# Altium footprint library Connector_JST.PcbLib: 558 footprints (part 11 of 35)
Each footprint in its own frame and in the unit in brackets; x right, y up, seen from the top. Pads: shape width x height; smd on the part's side, far side on the other; paste and mask are expansions set on the pad; w line width, h text height; cw(c..) or ccw(c..) is an arc to the next point about the centre after c.
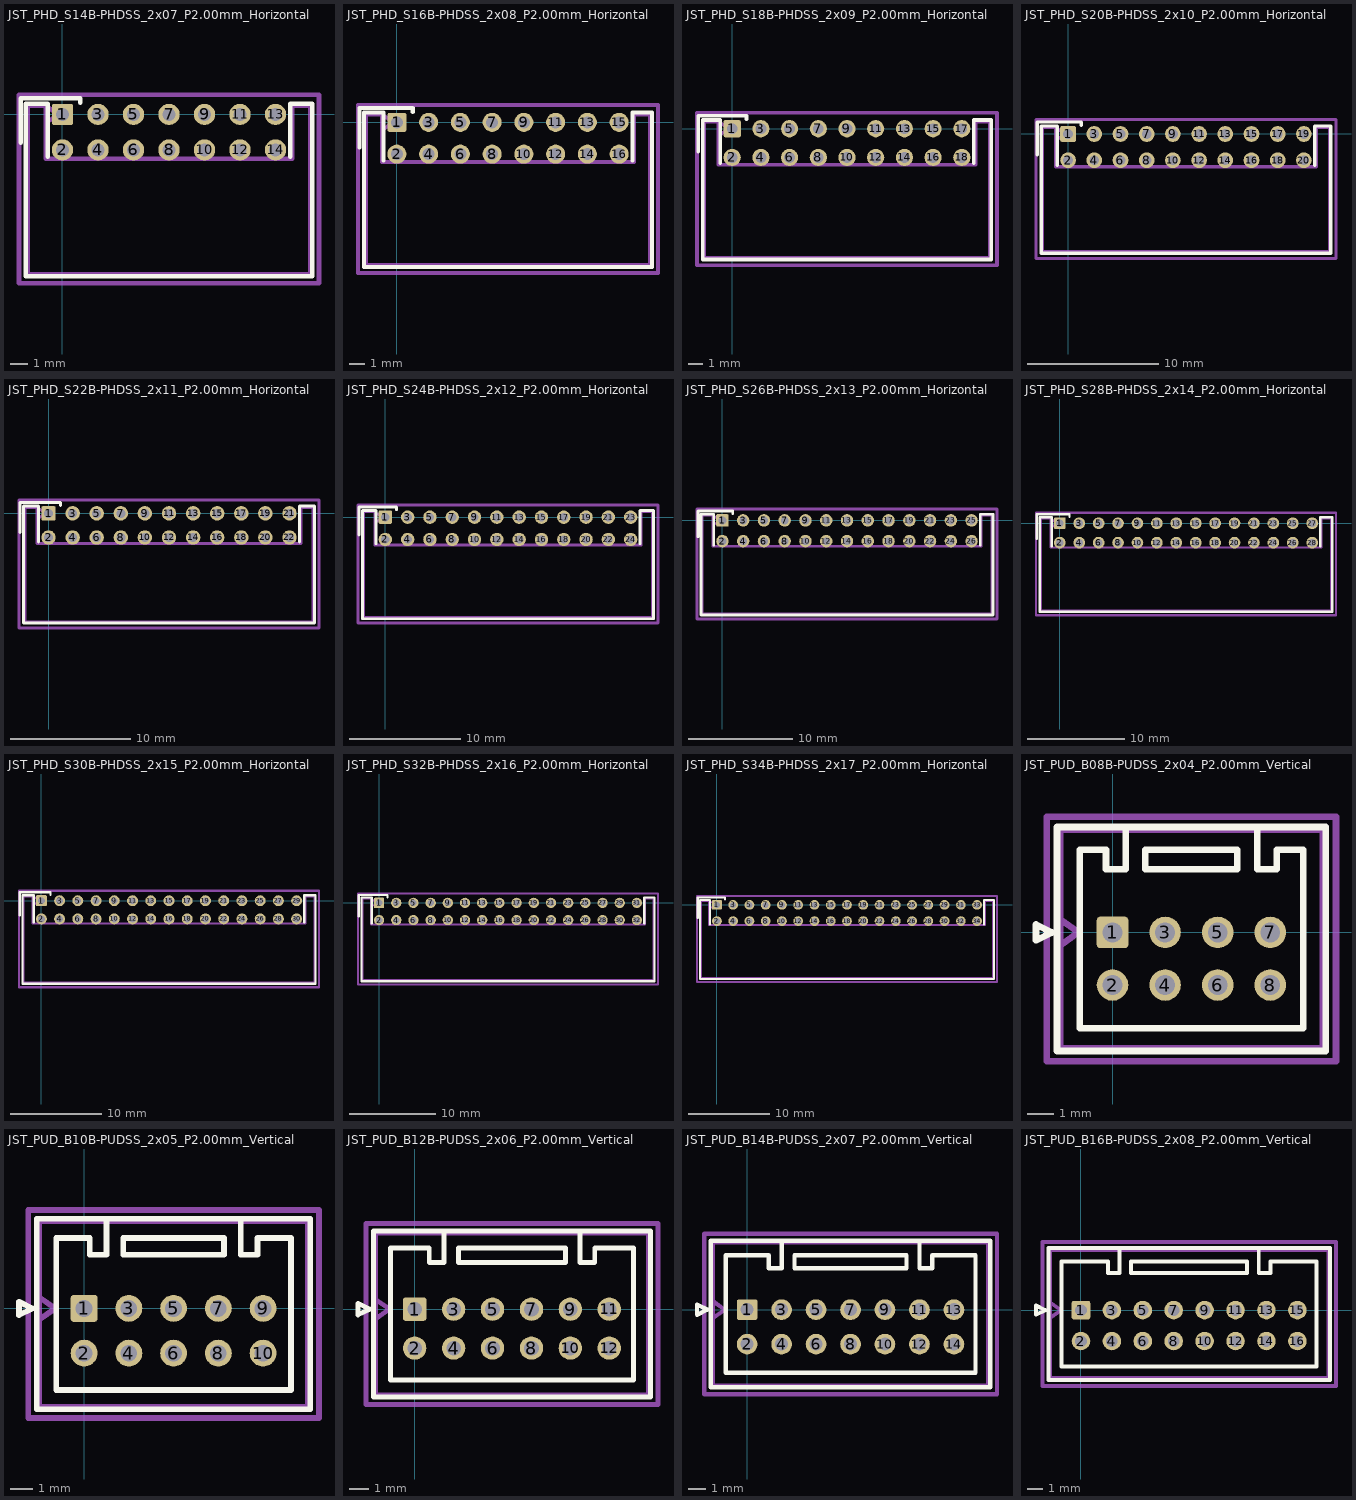
[diagram p10: the footprints below, top view; thin cyan lines are the x and y axes]

## JST_PHD_S14B-PHDSS_2x07_P2.00mm_Horizontal [mm] "JST_PHD_S14B-PHDSS_2x07_P2.00mm_Horizontal"
pads (14):
  rrect21% 1.2x1.2 hole 0.75: 1(0,0)
  round 1.2 hole 0.75: 2(0,-2) 3(2,0) 4(2,-2) 5(4,0) 6(4,-2) 7(6,0) 8(6,-2) 9(8,0) 10(8,-2) 11(10,0) 12(10,-2) 13(12,0) 14(12,-2)
F.SilkS:
  lines w0.254: -2.36,-1.59 -2.36,0.91 1,0.91 1,0.66 ; -0.84,-2.39 -0.84,0.61 -2.06,0.61 -2.06,-9.11 6,-9.11 14.06,-9.11 14.06,0.61 12.84,0.61 12.84,-2.39
Top Component Center:
  lines w0.127: -0.127,0 0.127,0 ; 0,-0.127 0,0.127
Top Assembly:
  lines w0.254: -0.95,-0.5 -0.243,0 -0.95,0.5 ; -0.95,0.5 -0.95,-2.5 12.95,-2.5 12.95,0.5 13.95,0.5 13.95,-9 -1.95,-9 -1.95,0.5 -0.95,0.5
Top Courtyard:
  lines w0.254: -2.45,-9.5 14.45,-9.5 14.45,1.1 -2.45,1.1 -2.45,-9.5
Top Designator:
  text ".Designator" at 2.57,-4.544 h1.52

## JST_PHD_S16B-PHDSS_2x08_P2.00mm_Horizontal [mm] "JST_PHD_S16B-PHDSS_2x08_P2.00mm_Horizontal"
pads (16):
  rrect21% 1.2x1.2 hole 0.75: 1(0,0)
  round 1.2 hole 0.75: 2(0,-2) 3(2,0) 4(2,-2) 5(4,0) 6(4,-2) 7(6,0) 8(6,-2) 9(8,0) 10(8,-2) 11(10,0) 12(10,-2) 13(12,0) 14(12,-2) 15(14,0) 16(14,-2)
F.SilkS:
  lines w0.254: -2.36,-1.59 -2.36,0.91 1,0.91 1,0.66 ; -0.84,-2.39 -0.84,0.61 -2.06,0.61 -2.06,-9.11 7,-9.11 16.06,-9.11 16.06,0.61 14.84,0.61 14.84,-2.39
Top Component Center:
  lines w0.127: -0.127,0 0.127,0 ; 0,-0.127 0,0.127
Top Assembly:
  lines w0.254: -0.95,-0.5 -0.243,0 -0.95,0.5 ; -0.95,0.5 -0.95,-2.5 14.95,-2.5 14.95,0.5 15.95,0.5 15.95,-9 -1.95,-9 -1.95,0.5 -0.95,0.5
Top Courtyard:
  lines w0.254: -2.45,-9.5 16.45,-9.5 16.45,1.1 -2.45,1.1 -2.45,-9.5
Top Designator:
  text ".Designator" at 3.682,-5.678 h1.52

## JST_PHD_S18B-PHDSS_2x09_P2.00mm_Horizontal [mm] "JST_PHD_S18B-PHDSS_2x09_P2.00mm_Horizontal"
pads (18):
  rrect21% 1.2x1.2 hole 0.75: 1(0,0)
  round 1.2 hole 0.75: 2(0,-2) 3(2,0) 4(2,-2) 5(4,0) 6(4,-2) 7(6,0) 8(6,-2) 9(8,0) 10(8,-2) 11(10,0) 12(10,-2) 13(12,0) 14(12,-2) 15(14,0) 16(14,-2) 17(16,0) 18(16,-2)
F.SilkS:
  lines w0.254: -2.36,-1.59 -2.36,0.91 1,0.91 1,0.66 ; -0.84,-2.39 -0.84,0.61 -2.06,0.61 -2.06,-9.11 8,-9.11 18.06,-9.11 18.06,0.61 16.84,0.61 16.84,-2.39
Top Component Center:
  lines w0.127: -0.127,0 0.127,0 ; 0,-0.127 0,0.127
Top Assembly:
  lines w0.254: -0.95,-0.5 -0.243,0 -0.95,0.5 ; -0.95,0.5 -1.95,0.5 -1.95,-9 17.95,-9 17.95,0.5 16.95,0.5 16.95,-2.5 -0.95,-2.5 -0.95,0.5
Top Courtyard:
  lines w0.254: -2.45,-9.5 -2.45,1.1 18.45,1.1 18.45,-9.5 -2.45,-9.5
Top Designator:
  text ".Designator" at 4.57,-4.544 h1.52

## JST_PHD_S20B-PHDSS_2x10_P2.00mm_Horizontal [mm] "JST_PHD_S20B-PHDSS_2x10_P2.00mm_Horizontal"
pads (20):
  rrect21% 1.2x1.2 hole 0.75: 1(0,0)
  round 1.2 hole 0.75: 2(0,-2) 3(2,0) 4(2,-2) 5(4,0) 6(4,-2) 7(6,0) 8(6,-2) 9(8,0) 10(8,-2) 11(10,0) 12(10,-2) 13(12,0) 14(12,-2) 15(14,0) 16(14,-2) 17(16,0) 18(16,-2) 19(18,0) 20(18,-2)
F.SilkS:
  lines w0.254: -2.36,-1.59 -2.36,0.91 1,0.91 1,0.66 ; -0.84,-2.39 -0.84,0.61 -2.06,0.61 -2.06,-9.11 9,-9.11 20.06,-9.11 20.06,0.61 18.84,0.61 18.84,-2.39
Top Component Center:
  lines w0.127: -0.127,0 0.127,0 ; 0,-0.127 0,0.127
Top Assembly:
  lines w0.254: -0.95,-0.5 -0.243,0 -0.95,0.5 ; -0.95,0.5 -1.95,0.5 -1.95,-9 19.95,-9 19.95,0.5 18.95,0.5 18.95,-2.5 -0.95,-2.5 -0.95,0.5
Top Courtyard:
  lines w0.254: -2.45,-9.5 -2.45,1.1 20.45,1.1 20.45,-9.5 -2.45,-9.5
Top Designator:
  text ".Designator" at 5.714,-5.678 h1.52

## JST_PHD_S22B-PHDSS_2x11_P2.00mm_Horizontal [mm] "JST_PHD_S22B-PHDSS_2x11_P2.00mm_Horizontal"
pads (22):
  rrect21% 1.2x1.2 hole 0.75: 1(0,0)
  round 1.2 hole 0.75: 2(0,-2) 3(2,0) 4(2,-2) 5(4,0) 6(4,-2) 7(6,0) 8(6,-2) 9(8,0) 10(8,-2) 11(10,0) 12(10,-2) 13(12,0) 14(12,-2) 15(14,0) 16(14,-2) 17(16,0) 18(16,-2) 19(18,0) 20(18,-2) 21(20,0) 22(20,-2)
F.SilkS:
  lines w0.254: -2.36,-1.59 -2.36,0.91 1,0.91 1,0.66 ; -0.84,-2.39 -0.84,0.61 -2.06,0.61 -2.06,-9.11 10,-9.11 22.06,-9.11 22.06,0.61 20.84,0.61 20.84,-2.39
Top Component Center:
  lines w0.127: -0.127,0 0.127,0 ; 0,-0.127 0,0.127
Top Assembly:
  lines w0.254: -0.95,-0.5 -0.243,0 -0.95,0.5 ; -0.95,0.5 -1.95,0.5 -1.95,-9 21.95,-9 21.95,0.5 20.95,0.5 20.95,-2.5 -0.95,-2.5 -0.95,0.5
Top Courtyard:
  lines w0.254: -2.45,-9.5 -2.45,1.1 22.45,1.1 22.45,-9.5 -2.45,-9.5
Top Designator:
  text ".Designator" at 6.603,-5.551 h1.52

## JST_PHD_S24B-PHDSS_2x12_P2.00mm_Horizontal [mm] "JST_PHD_S24B-PHDSS_2x12_P2.00mm_Horizontal"
pads (24):
  rrect21% 1.2x1.2 hole 0.75: 1(0,0)
  round 1.2 hole 0.75: 2(0,-2) 3(2,0) 4(2,-2) 5(4,0) 6(4,-2) 7(6,0) 8(6,-2) 9(8,0) 10(8,-2) 11(10,0) 12(10,-2) 13(12,0) 14(12,-2) 15(14,0) 16(14,-2) 17(16,0) 18(16,-2) 19(18,0) 20(18,-2) 21(20,0) 22(20,-2) 23(22,0) 24(22,-2)
F.SilkS:
  lines w0.254: -2.36,-1.59 -2.36,0.91 1,0.91 1,0.66 ; -0.84,-2.39 -0.84,0.61 -2.06,0.61 -2.06,-9.11 11,-9.11 24.06,-9.11 24.06,0.61 22.84,0.61 22.84,-2.39
Top Component Center:
  lines w0.127: -0.127,0 0.127,0 ; 0,-0.127 0,0.127
Top Assembly:
  lines w0.254: -0.95,-0.5 -0.243,0 -0.95,0.5 ; -0.95,0.5 -0.95,-2.5 22.95,-2.5 22.95,0.5 23.95,0.5 23.95,-9 -1.95,-9 -1.95,0.5 -0.95,0.5
Top Courtyard:
  lines w0.254: -2.45,-9.5 24.45,-9.5 24.45,1.1 -2.45,1.1 -2.45,-9.5
Top Designator:
  text ".Designator" at 7.746,-5.17 h1.52

## JST_PHD_S26B-PHDSS_2x13_P2.00mm_Horizontal [mm] "JST_PHD_S26B-PHDSS_2x13_P2.00mm_Horizontal"
pads (26):
  rrect21% 1.2x1.2 hole 0.75: 1(0,0)
  round 1.2 hole 0.75: 2(0,-2) 3(2,0) 4(2,-2) 5(4,0) 6(4,-2) 7(6,0) 8(6,-2) 9(8,0) 10(8,-2) 11(10,0) 12(10,-2) 13(12,0) 14(12,-2) 15(14,0) 16(14,-2) 17(16,0) 18(16,-2) 19(18,0) 20(18,-2) 21(20,0) 22(20,-2) 23(22,0) 24(22,-2) 25(24,0) 26(24,-2)
F.SilkS:
  lines w0.254: -2.36,-1.59 -2.36,0.91 1,0.91 1,0.66 ; -0.84,-2.39 -0.84,0.61 -2.06,0.61 -2.06,-9.11 12,-9.11 26.06,-9.11 26.06,0.61 24.84,0.61 24.84,-2.39
Top Component Center:
  lines w0.127: -0.127,0 0.127,0 ; 0,-0.127 0,0.127
Top Assembly:
  lines w0.254: -0.95,-0.5 -0.243,0 -0.95,0.5 ; -0.95,0.5 -1.95,0.5 -1.95,-9 25.95,-9 25.95,0.5 24.95,0.5 24.95,-2.5 -0.95,-2.5 -0.95,0.5
Top Courtyard:
  lines w0.254: -2.45,-9.5 -2.45,1.1 26.45,1.1 26.45,-9.5 -2.45,-9.5
Top Designator:
  text ".Designator" at 9.143,-5.678 h1.52

## JST_PHD_S28B-PHDSS_2x14_P2.00mm_Horizontal [mm] "JST_PHD_S28B-PHDSS_2x14_P2.00mm_Horizontal"
pads (28):
  rrect21% 1.2x1.2 hole 0.75: 1(0,0)
  round 1.2 hole 0.75: 2(0,-2) 3(2,0) 4(2,-2) 5(4,0) 6(4,-2) 7(6,0) 8(6,-2) 9(8,0) 10(8,-2) 11(10,0) 12(10,-2) 13(12,0) 14(12,-2) 15(14,0) 16(14,-2) 17(16,0) 18(16,-2) 19(18,0) 20(18,-2) 21(20,0) 22(20,-2) 23(22,0) 24(22,-2) 25(24,0) 26(24,-2) 27(26,0) 28(26,-2)
F.SilkS:
  lines w0.254: -2.36,-1.59 -2.36,0.91 1,0.91 1,0.66 ; -0.84,-2.39 -0.84,0.61 -2.06,0.61 -2.06,-9.11 13,-9.11 28.06,-9.11 28.06,0.61 26.84,0.61 26.84,-2.39
Top Component Center:
  lines w0.127: -0.127,0 0.127,0 ; 0,-0.127 0,0.127
Top Assembly:
  lines w0.254: -0.95,-0.5 -0.243,0 -0.95,0.5 ; -0.95,0.5 -0.95,-2.5 26.95,-2.5 26.95,0.5 27.95,0.5 27.95,-9 -1.95,-9 -1.95,0.5 -0.95,0.5
Top Courtyard:
  lines w0.254: -2.45,-9.5 28.45,-9.5 28.45,1.1 -2.45,1.1 -2.45,-9.5
Top Designator:
  text ".Designator" at 9.524,-5.805 h1.52

## JST_PHD_S30B-PHDSS_2x15_P2.00mm_Horizontal [mm] "JST_PHD_S30B-PHDSS_2x15_P2.00mm_Horizontal"
pads (30):
  rrect21% 1.2x1.2 hole 0.75: 1(0,0)
  round 1.2 hole 0.75: 2(0,-2) 3(2,0) 4(2,-2) 5(4,0) 6(4,-2) 7(6,0) 8(6,-2) 9(8,0) 10(8,-2) 11(10,0) 12(10,-2) 13(12,0) 14(12,-2) 15(14,0) 16(14,-2) 17(16,0) 18(16,-2) 19(18,0) 20(18,-2) 21(20,0) 22(20,-2) 23(22,0) 24(22,-2) 25(24,0) 26(24,-2) 27(26,0) 28(26,-2) 29(28,0) 30(28,-2)
F.SilkS:
  lines w0.254: -2.36,-1.59 -2.36,0.91 1,0.91 1,0.66 ; -0.84,-2.39 -0.84,0.61 -2.06,0.61 -2.06,-9.11 14,-9.11 30.06,-9.11 30.06,0.61 28.84,0.61 28.84,-2.39
Top Component Center:
  lines w0.127: -0.127,0 0.127,0 ; 0,-0.127 0,0.127
Top Assembly:
  lines w0.254: -0.95,-0.5 -0.243,0 -0.95,0.5 ; -0.95,0.5 -1.95,0.5 -1.95,-9 29.95,-9 29.95,0.5 28.95,0.5 28.95,-2.5 -0.95,-2.5 -0.95,0.5
Top Courtyard:
  lines w0.254: -2.45,-9.5 -2.45,1.1 30.45,1.1 30.45,-9.5 -2.45,-9.5
Top Designator:
  text ".Designator" at 10.413,-6.059 h1.52

## JST_PHD_S32B-PHDSS_2x16_P2.00mm_Horizontal [mm] "JST_PHD_S32B-PHDSS_2x16_P2.00mm_Horizontal"
pads (32):
  rrect21% 1.2x1.2 hole 0.75: 1(0,0)
  round 1.2 hole 0.75: 2(0,-2) 3(2,0) 4(2,-2) 5(4,0) 6(4,-2) 7(6,0) 8(6,-2) 9(8,0) 10(8,-2) 11(10,0) 12(10,-2) 13(12,0) 14(12,-2) 15(14,0) 16(14,-2) 17(16,0) 18(16,-2) 19(18,0) 20(18,-2) 21(20,0) 22(20,-2) 23(22,0) 24(22,-2) 25(24,0) 26(24,-2) 27(26,0) 28(26,-2) 29(28,0) 30(28,-2) 31(30,0) 32(30,-2)
F.SilkS:
  lines w0.254: -2.36,-1.59 -2.36,0.91 1,0.91 1,0.66 ; -0.84,-2.39 -0.84,0.61 -2.06,0.61 -2.06,-9.11 15,-9.11 32.06,-9.11 32.06,0.61 30.84,0.61 30.84,-2.39
Top Component Center:
  lines w0.127: -0.127,0 0.127,0 ; 0,-0.127 0,0.127
Top Assembly:
  lines w0.254: -0.95,-0.5 -0.243,0 -0.95,0.5 ; -0.95,0.5 -0.95,-2.5 30.95,-2.5 30.95,0.5 31.95,0.5 31.95,-9 -1.95,-9 -1.95,0.5 -0.95,0.5
Top Courtyard:
  lines w0.254: -2.45,-9.5 32.45,-9.5 32.45,1.1 -2.45,1.1 -2.45,-9.5
Top Designator:
  text ".Designator" at 11.556,-5.297 h1.52

## JST_PHD_S34B-PHDSS_2x17_P2.00mm_Horizontal [mm] "JST_PHD_S34B-PHDSS_2x17_P2.00mm_Horizontal"
pads (34):
  rrect21% 1.2x1.2 hole 0.75: 1(0,0)
  round 1.2 hole 0.75: 2(0,-2) 3(2,0) 4(2,-2) 5(4,0) 6(4,-2) 7(6,0) 8(6,-2) 9(8,0) 10(8,-2) 11(10,0) 12(10,-2) 13(12,0) 14(12,-2) 15(14,0) 16(14,-2) 17(16,0) 18(16,-2) 19(18,0) 20(18,-2) 21(20,0) 22(20,-2) 23(22,0) 24(22,-2) 25(24,0) 26(24,-2) 27(26,0) 28(26,-2) 29(28,0) 30(28,-2) 31(30,0) 32(30,-2) 33(32,0) 34(32,-2)
F.SilkS:
  lines w0.254: -2.36,-1.59 -2.36,0.91 1,0.91 1,0.66 ; -0.84,-2.39 -0.84,0.61 -2.06,0.61 -2.06,-9.11 16,-9.11 34.06,-9.11 34.06,0.61 32.84,0.61 32.84,-2.39
Top Component Center:
  lines w0.127: -0.127,0 0.127,0 ; 0,-0.127 0,0.127
Top Assembly:
  lines w0.254: -0.95,-0.5 -0.243,0 -0.95,0.5 ; -0.95,0.5 -1.95,0.5 -1.95,-9 33.95,-9 33.95,0.5 32.95,0.5 32.95,-2.5 -0.95,-2.5 -0.95,0.5
Top Courtyard:
  lines w0.254: -2.45,-9.5 -2.45,1.1 34.45,1.1 34.45,-9.5 -2.45,-9.5
Top Designator:
  text ".Designator" at 12.57,-4.544 h1.52

## JST_PUD_B08B-PUDSS_2x04_P2.00mm_Vertical [mm] "JST_PUD_B08B-PUDSS_2x04_P2.00mm_Vertical"
pads (8):
  rrect21% 1.2x1.2 hole 0.75: 1(0,0)
  round 1.2 hole 0.75: 2(0,-2) 3(2,0) 4(2,-2) 5(4,0) 6(4,-2) 7(6,0) 8(6,-2)
F.SilkS:
  lines w0.254: 0.5,4.01 0.5,2.4 -0.25,2.4 -0.25,3.15 -1.25,3.15 -1.25,-3.65 3,-3.65 7.25,-3.65 7.25,3.15 6.25,3.15 6.25,2.4 5.5,2.4 5.5,4.01 ; -2.91,-0.3 -2.31,0 -2.91,0.3 -2.91,-0.3 ; -2.11,-4.51 8.11,-4.51 8.11,4.01 -2.11,4.01 -2.11,-4.51 ; 1.25,2.4 4.75,2.4 4.75,3.15 1.25,3.15 1.25,2.4
Top Component Center:
  lines w0.127: -0.127,0 0.127,0 ; 0,-0.127 0,0.127
Top Assembly:
  lines w0.254: -2,-0.5 -1.293,0 -2,0.5 ; -2,-4.4 8,-4.4 8,3.9 -2,3.9 -2,-4.4
Top Courtyard:
  lines w0.254: -2.5,-4.9 8.5,-4.9 8.5,4.4 -2.5,4.4 -2.5,-4.9
Top Designator:
  text ".Designator" at -0.509,1.053 h1.52

## JST_PUD_B10B-PUDSS_2x05_P2.00mm_Vertical [mm] "JST_PUD_B10B-PUDSS_2x05_P2.00mm_Vertical"
pads (10):
  rrect21% 1.2x1.2 hole 0.75: 1(0,0)
  round 1.2 hole 0.75: 2(0,-2) 3(2,0) 4(2,-2) 5(4,0) 6(4,-2) 7(6,0) 8(6,-2) 9(8,0) 10(8,-2)
F.SilkS:
  lines w0.254: 1,4.01 1,2.4 0.25,2.4 0.25,3.15 -1.25,3.15 -1.25,-3.65 4,-3.65 9.25,-3.65 9.25,3.15 7.75,3.15 7.75,2.4 7,2.4 7,4.01 ; -2.91,-0.3 -2.31,0 -2.91,0.3 -2.91,-0.3 ; -2.11,-4.51 10.11,-4.51 10.11,4.01 -2.11,4.01 -2.11,-4.51 ; 1.75,2.4 6.25,2.4 6.25,3.15 1.75,3.15 1.75,2.4
Top Component Center:
  lines w0.127: -0.127,0 0.127,0 ; 0,-0.127 0,0.127
Top Assembly:
  lines w0.254: -2,-0.5 -1.293,0 -2,0.5 ; -2,-4.4 10,-4.4 10,3.9 -2,3.9 -2,-4.4
Top Courtyard:
  lines w0.254: -2.5,-4.9 10.5,-4.9 10.5,4.4 -2.5,4.4 -2.5,-4.9
Top Designator:
  text ".Designator" at 0.507,1.18 h1.52

## JST_PUD_B12B-PUDSS_2x06_P2.00mm_Vertical [mm] "JST_PUD_B12B-PUDSS_2x06_P2.00mm_Vertical"
pads (12):
  rrect21% 1.2x1.2 hole 0.75: 1(0,0)
  round 1.2 hole 0.75: 2(0,-2) 3(2,0) 4(2,-2) 5(4,0) 6(4,-2) 7(6,0) 8(6,-2) 9(8,0) 10(8,-2) 11(10,0) 12(10,-2)
F.SilkS:
  lines w0.254: 1.5,4.01 1.5,2.4 0.75,2.4 0.75,3.15 -1.25,3.15 -1.25,-3.65 5,-3.65 11.25,-3.65 11.25,3.15 9.25,3.15 9.25,2.4 8.5,2.4 8.5,4.01 ; -2.91,-0.3 -2.91,0.3 -2.31,0 -2.91,-0.3 ; -2.11,-4.51 -2.11,4.01 12.11,4.01 12.11,-4.51 -2.11,-4.51 ; 2.25,2.4 2.25,3.15 7.75,3.15 7.75,2.4 2.25,2.4
Top Component Center:
  lines w0.127: -0.127,0 0.127,0 ; 0,-0.127 0,0.127
Top Assembly:
  lines w0.254: -2,-0.5 -1.293,0 -2,0.5 ; -2,-4.4 -2,3.9 12,3.9 12,-4.4 -2,-4.4
Top Courtyard:
  lines w0.254: -2.5,-4.9 -2.5,4.4 12.5,4.4 12.5,-4.9 -2.5,-4.9
Top Designator:
  text ".Designator" at 1.523,1.18 h1.52

## JST_PUD_B14B-PUDSS_2x07_P2.00mm_Vertical [mm] "JST_PUD_B14B-PUDSS_2x07_P2.00mm_Vertical"
pads (14):
  rrect21% 1.2x1.2 hole 0.75: 1(0,0)
  round 1.2 hole 0.75: 2(0,-2) 3(2,0) 4(2,-2) 5(4,0) 6(4,-2) 7(6,0) 8(6,-2) 9(8,0) 10(8,-2) 11(10,0) 12(10,-2) 13(12,0) 14(12,-2)
F.SilkS:
  lines w0.254: 2,4.01 2,2.4 1.25,2.4 1.25,3.15 -1.25,3.15 -1.25,-3.65 6,-3.65 13.25,-3.65 13.25,3.15 10.75,3.15 10.75,2.4 10,2.4 10,4.01 ; -2.91,-0.3 -2.91,0.3 -2.31,0 -2.91,-0.3 ; -2.11,-4.51 -2.11,4.01 14.11,4.01 14.11,-4.51 -2.11,-4.51 ; 2.75,2.4 2.75,3.15 9.25,3.15 9.25,2.4 2.75,2.4
Top Component Center:
  lines w0.127: -0.127,0 0.127,0 ; 0,-0.127 0,0.127
Top Assembly:
  lines w0.254: -2,-0.5 -1.293,0 -2,0.5 ; -2,-4.4 -2,3.9 14,3.9 14,-4.4 -2,-4.4
Top Courtyard:
  lines w0.254: -2.5,-4.9 -2.5,4.4 14.5,4.4 14.5,-4.9 -2.5,-4.9
Top Designator:
  text ".Designator" at 2.539,1.18 h1.52

## JST_PUD_B16B-PUDSS_2x08_P2.00mm_Vertical [mm] "JST_PUD_B16B-PUDSS_2x08_P2.00mm_Vertical"
pads (16):
  rrect21% 1.2x1.2 hole 0.75: 1(0,0)
  round 1.2 hole 0.75: 2(0,-2) 3(2,0) 4(2,-2) 5(4,0) 6(4,-2) 7(6,0) 8(6,-2) 9(8,0) 10(8,-2) 11(10,0) 12(10,-2) 13(12,0) 14(12,-2) 15(14,0) 16(14,-2)
F.SilkS:
  lines w0.254: 2.5,4.01 2.5,2.4 1.75,2.4 1.75,3.15 -1.25,3.15 -1.25,-3.65 7,-3.65 15.25,-3.65 15.25,3.15 12.25,3.15 12.25,2.4 11.5,2.4 11.5,4.01 ; -2.91,-0.3 -2.31,0 -2.91,0.3 -2.91,-0.3 ; -2.11,-4.51 16.11,-4.51 16.11,4.01 -2.11,4.01 -2.11,-4.51 ; 3.25,2.4 10.75,2.4 10.75,3.15 3.25,3.15 3.25,2.4
Top Component Center:
  lines w0.127: -0.127,0 0.127,0 ; 0,-0.127 0,0.127
Top Assembly:
  lines w0.254: -2,-0.5 -1.293,0 -2,0.5 ; -2,-4.4 16,-4.4 16,3.9 -2,3.9 -2,-4.4
Top Courtyard:
  lines w0.254: -2.5,-4.9 16.5,-4.9 16.5,4.4 -2.5,4.4 -2.5,-4.9
Top Designator:
  text ".Designator" at 3.428,1.053 h1.52